# EAGLE library part DSPIC33FJ64MC804-H/PT (library DSPIC33FJ64MC804-H_PT)
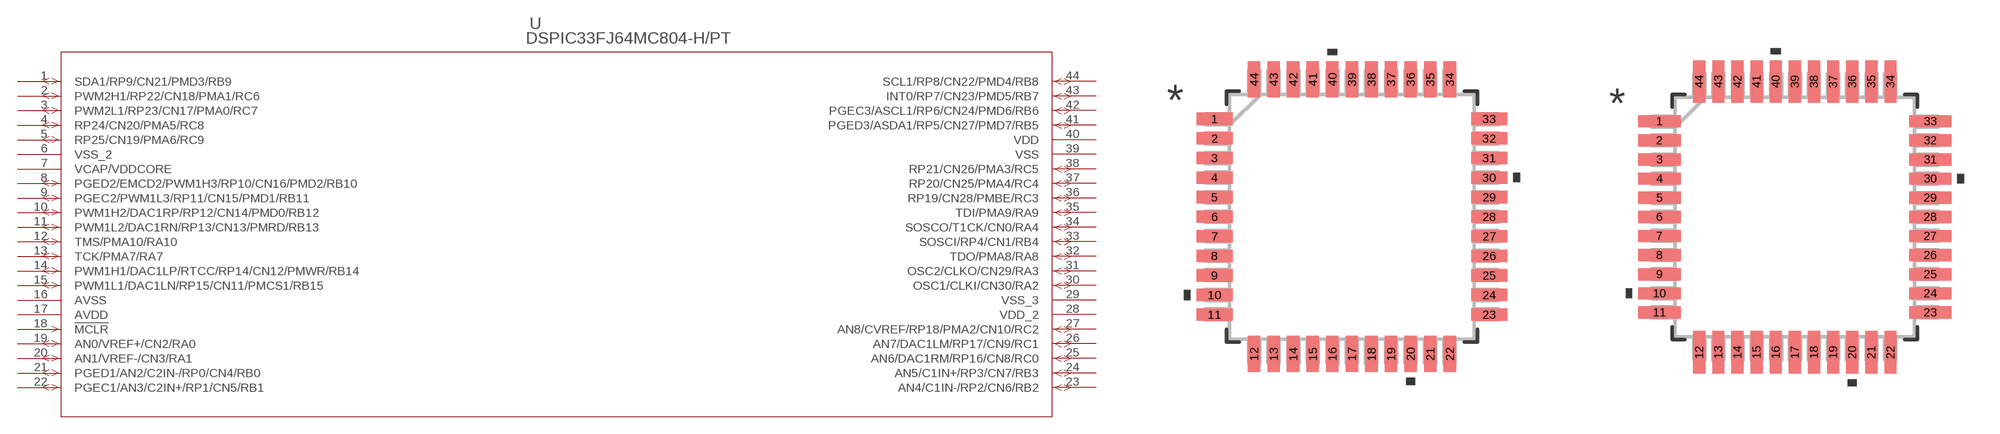
[diagram p0: symbol with the pads of TQFP44_10X10MC_MCH; footprints TQFP44_10X10MC_MCH, TQFP44_10X10MC_MCH-M]

Designator prefix U

## DSPIC33FJ64MC804-H/PT (COPYRIGHT: Copyright (C) 2025 Ultra Librarian. All rights reserved.; MANUFACTURER_NAME: Microchip; MANUFACTURER_PART_NUMBER: DSPIC33FJ64MC804-H/PT)  [TQFP44_10X10MC_MCH]
1  SDA1/RP9/CN21/PMD3/RB9
2  PWM2H1/RP22/CN18/PMA1/RC6
3  PWM2L1/RP23/CN17/PMA0/RC7
4  RP24/CN20/PMA5/RC8
5  RP25/CN19/PMA6/RC9
6  VSS_2  pwr
7  VCAP/VDDCORE  pwr
8  PGED2/EMCD2/PWM1H3/RP10/CN16/PMD2/RB10
9  PGEC2/PWM1L3/RP11/CN15/PMD1/RB11
10  PWM1H2/DAC1RP/RP12/CN14/PMD0/RB12
11  PWM1L2/DAC1RN/RP13/CN13/PMRD/RB13
12  TMS/PMA10/RA10
13  TCK/PMA7/RA7
14  PWM1H1/DAC1LP/RTCC/RP14/CN12/PMWR/RB14
15  PWM1L1/DAC1LN/RP15/CN11/PMCS1/RB15
16  AVSS  pwr
17  AVDD  pwr
18  !MCLR  in
19  AN0/VREF+/CN2/RA0
20  AN1/VREF-/CN3/RA1
21  PGED1/AN2/C2IN-/RP0/CN4/RB0
22  PGEC1/AN3/C2IN+/RP1/CN5/RB1
23  AN4/C1IN-/RP2/CN6/RB2
24  AN5/C1IN+/RP3/CN7/RB3
25  AN6/DAC1RM/RP16/CN8/RC0
26  AN7/DAC1LM/RP17/CN9/RC1
27  AN8/CVREF/RP18/PMA2/CN10/RC2
28  VDD_2  pwr
29  VSS_3  pwr
30  OSC1/CLKI/CN30/RA2
31  OSC2/CLKO/CN29/RA3
32  TDO/PMA8/RA8
33  SOSCI/RP4/CN1/RB4
34  SOSCO/T1CK/CN0/RA4
35  TDI/PMA9/RA9
36  RP19/CN28/PMBE/RC3
37  RP20/CN25/PMA4/RC4
38  RP21/CN26/PMA3/RC5
39  VSS  pwr
40  VDD  pwr
41  PGED3/ASDA1/RP5/CN27/PMD7/RB5
42  PGEC3/ASCL1/RP6/CN24/PMD6/RB6
43  INT0/RP7/CN23/PMD5/RB7
44  SCL1/RP8/CN22/PMD4/RB8

## DSPIC33FJ64MC804-H/PTTQFP44_10X10MC_MCH-M (COPYRIGHT: Copyright (C) 2025 Ultra Librarian. All rights reserved.; MANUFACTURER_NAME: Microchip; MANUFACTURER_PART_NUMBER: DSPIC33FJ64MC804-H/PT)  [TQFP44_10X10MC_MCH-M]
Pads as for TQFP44_10X10MC_MCH

## DSPIC33FJ64MC804-H/PTTQFP44_10X10MC_MCH-L (COPYRIGHT: Copyright (C) 2025 Ultra Librarian. All rights reserved.; MANUFACTURER_NAME: Microchip; MANUFACTURER_PART_NUMBER: DSPIC33FJ64MC804-H/PT)  [TQFP44_10X10MC_MCH-L]
Pads as for TQFP44_10X10MC_MCH

## Footprint TQFP44_10X10MC_MCH (pad centres in mm)
smd 1.473 x 0.508: 1 -5.613,4; 2 -5.613,3.2; 3 -5.613,2.4; 4 -5.613,1.6; 5 -5.613,0.8; 6 -5.613,0; 7 -5.613,-0.8; 8 -5.613,-1.6; 9 -5.613,-2.4; 10 -5.613,-3.2; 11 -5.613,-4; 23 5.613,-4; 24 5.613,-3.2; 25 5.613,-2.4; 26 5.613,-1.6; 27 5.613,-0.8; 28 5.613,0; 29 5.613,0.8; 30 5.613,1.6; 31 5.613,2.4; 32 5.613,3.2; 33 5.613,4
smd 0.508 x 1.473: 12 -4,-5.613; 13 -3.2,-5.613; 14 -2.4,-5.613; 15 -1.6,-5.613; 16 -0.8,-5.613; 17 0,-5.613; 18 0.8,-5.613; 19 1.6,-5.613; 20 2.4,-5.613; 21 3.2,-5.613; 22 4,-5.613; 34 4,5.613; 35 3.2,5.613; 36 2.4,5.613; 37 1.6,5.613; 38 0.8,5.613; 39 0,5.613; 40 -0.8,5.613; 41 -1.6,5.613; 42 -2.4,5.613; 43 -3.2,5.613; 44 -4,5.613

## Footprint TQFP44_10X10MC_MCH-M (pad centres in mm)
smd 1.778 x 0.508: 1 -5.664,4; 2 -5.664,3.2; 3 -5.664,2.4; 4 -5.664,1.6; 5 -5.664,0.8; 6 -5.664,0; 7 -5.664,-0.8; 8 -5.664,-1.6; 9 -5.664,-2.4; 10 -5.664,-3.2; 11 -5.664,-4; 23 5.664,-4; 24 5.664,-3.2; 25 5.664,-2.4; 26 5.664,-1.6; 27 5.664,-0.8; 28 5.664,0; 29 5.664,0.8; 30 5.664,1.6; 31 5.664,2.4; 32 5.664,3.2; 33 5.664,4
smd 0.508 x 1.778: 12 -4,-5.664; 13 -3.2,-5.664; 14 -2.4,-5.664; 15 -1.6,-5.664; 16 -0.8,-5.664; 17 0,-5.664; 18 0.8,-5.664; 19 1.6,-5.664; 20 2.4,-5.664; 21 3.2,-5.664; 22 4,-5.664; 34 4,5.664; 35 3.2,5.664; 36 2.4,5.664; 37 1.6,5.664; 38 0.8,5.664; 39 0,5.664; 40 -0.8,5.664; 41 -1.6,5.664; 42 -2.4,5.664; 43 -3.2,5.664; 44 -4,5.664

## Footprint TQFP44_10X10MC_MCH-L (pad centres in mm)
smd 1.168 x 0.457: 1 -5.563,4; 2 -5.563,3.2; 3 -5.563,2.4; 4 -5.563,1.6; 5 -5.563,0.8; 6 -5.563,0; 7 -5.563,-0.8; 8 -5.563,-1.6; 9 -5.563,-2.4; 10 -5.563,-3.2; 11 -5.563,-4; 23 5.563,-4; 24 5.563,-3.2; 25 5.563,-2.4; 26 5.563,-1.6; 27 5.563,-0.8; 28 5.563,0; 29 5.563,0.8; 30 5.563,1.6; 31 5.563,2.4; 32 5.563,3.2; 33 5.563,4
smd 0.457 x 1.168: 12 -4,-5.563; 13 -3.2,-5.563; 14 -2.4,-5.563; 15 -1.6,-5.563; 16 -0.8,-5.563; 17 0,-5.563; 18 0.8,-5.563; 19 1.6,-5.563; 20 2.4,-5.563; 21 3.2,-5.563; 22 4,-5.563; 34 4,5.563; 35 3.2,5.563; 36 2.4,5.563; 37 1.6,5.563; 38 0.8,5.563; 39 0,5.563; 40 -0.8,5.563; 41 -1.6,5.563; 42 -2.4,5.563; 43 -3.2,5.563; 44 -4,5.563